# EAGLE library part MINI-USB-B (library PAS)
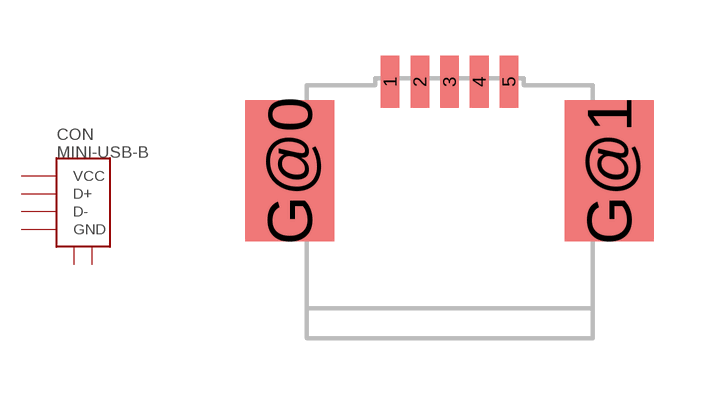
[diagram p10: symbol with the pads of MINI-USB-B; footprint MINI-USB-B]

Designator prefix CON

## MINI-USB-B  [MINI-USB-B]
1  VCC  pas
2  D-  pas
3  D+  pas
5  GND  pas
G@0  S  pas
G@1  S  pas

## Footprint MINI-USB-B (pad centres in mm)
HIROSE mini-b male usb connector SMD
smd 0.5 x 1.4: 1 -1.6,6.1; 2 -0.8,6.1; 3 0,6.1; 4 0.8,6.1; 5 1.6,6.1
smd 2.4 x 3.8: G@0 -4.3,3.7; G@1 4.3,3.7